# Altium footprint library D-PAK.PcbLib: 1 footprints
Each footprint in its own frame and in the unit in brackets; x right, y up, seen from the top. Pads: shape width x height; smd on the part's side, far side on the other; paste and mask are expansions set on the pad; w line width, h text height; cw(c..) or ccw(c..) is an arc to the next point about the centre after c.
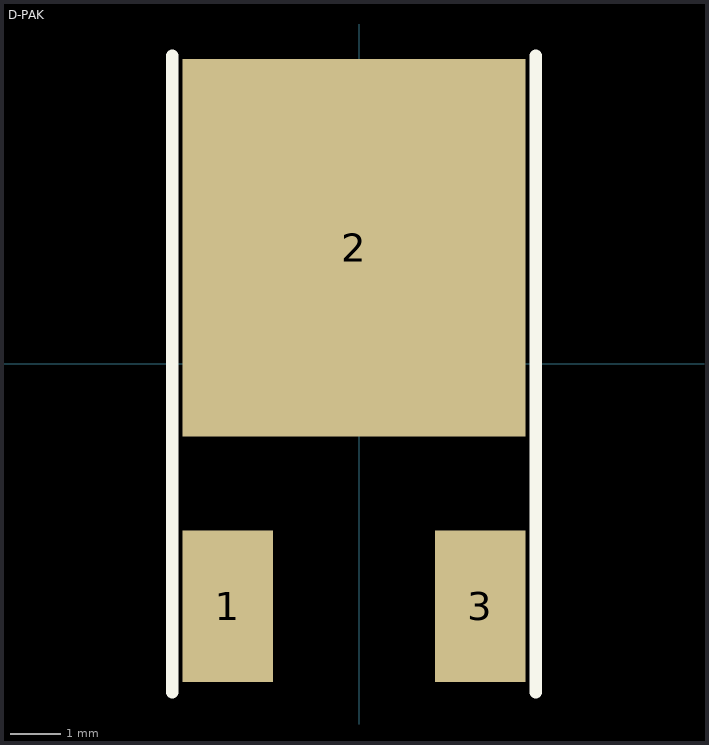
[diagram p0: the footprint, top view; thin cyan lines are the x and y axes]

## D-PAK [mm]
pads (3):
  rect 1.8x3 smd: 1(-2.6,-4.8) 3(2.4,-4.8)
  rect 6.8x7.47 smd: 2(-0.1,2.3)
Top Overlay:
  lines w0.254: -3.7,-6.5 -3.7,6.1 ; 3.5,-6.5 3.5,6.1
3D body "User Library-DPAK-1.step": height 2.41, standoff 0, extent -3.397,-4.668 3.143,5.271